# EAGLE library part DF40-60 (library kmod-connectors)
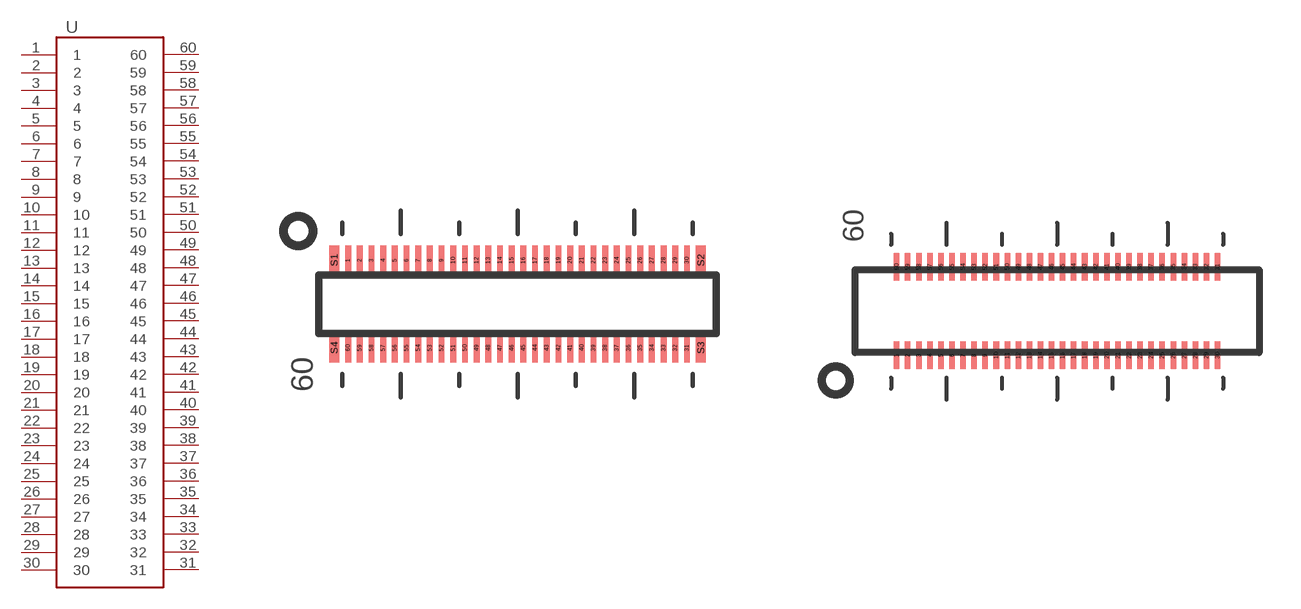
[diagram p12: symbol with the pads of DF40-HDR-60; footprints DF40-HDR-60, DF40-RCP-60]

Designator prefix -

## DF40-60HDR  [DF40-HDR-60]
1  1
2  2
3  3
4  4
5  5
6  6
7  7
8  8
9  9
10  10
11  11
12  12
13  13
14  14
15  15
16  16
17  17
18  18
19  19
20  20
21  21
22  22
23  23
24  24
25  25
26  26
27  27
28  28
29  29
30  30
31  31
32  32
33  33
34  34
35  35
36  36
37  37
38  38
39  39
40  40
41  41
42  42
43  43
44  44
45  45
46  46
47  47
48  48
49  49
50  50
51  51
52  52
53  53
54  54
55  55
56  56
57  57
58  58
59  59
60  60

## DF40-60RCP  [DF40-RCP-60]
Pads as for DF40-HDR-60

## Footprint DF40-HDR-60 (pad centres in mm)
Hirose DF40 60-pin header From http://www.hirose.co.jp/cataloge_hp/ed_DF40_20140305.pdf Changes: lengthened pads, thinned pads Untested!
smd 0.2 x 1: 1 -5.8,1.5; 2 -5.4,1.5; 3 -5,1.5; 4 -4.6,1.5; 5 -4.2,1.5; 6 -3.8,1.5; 7 -3.4,1.5; 8 -3,1.5; 9 -2.6,1.5; 10 -2.2,1.5; 11 -1.8,1.5; 12 -1.4,1.5; 13 -1,1.5; 14 -0.6,1.5; 15 -0.2,1.5; 16 0.2,1.5; 17 0.6,1.5; 18 1,1.5; 19 1.4,1.5; 20 1.8,1.5; 21 2.2,1.5; 22 2.6,1.5; 23 3,1.5; 24 3.4,1.5; 25 3.8,1.5; 26 4.2,1.5; 27 4.6,1.5; 28 5,1.5; 29 5.4,1.5; 30 5.8,1.5; 31 5.8,-1.5; 32 5.4,-1.5; 33 5,-1.5; 34 4.6,-1.5; 35 4.2,-1.5; 36 3.8,-1.5; 37 3.4,-1.5; 38 3,-1.5; 39 2.6,-1.5; 40 2.2,-1.5; 41 1.8,-1.5; 42 1.4,-1.5; 43 1,-1.5; 44 0.6,-1.5; 45 0.2,-1.5; 46 -0.2,-1.5; 47 -0.6,-1.5; 48 -1,-1.5; 49 -1.4,-1.5; 50 -1.8,-1.5; 51 -2.2,-1.5; 52 -2.6,-1.5; 53 -3,-1.5; 54 -3.4,-1.5; 55 -3.8,-1.5; 56 -4.2,-1.5; 57 -4.6,-1.5; 58 -5,-1.5; 59 -5.4,-1.5; 60 -5.8,-1.5
smd 0.35 x 1: S1 -6.275,1.5; S2 6.275,1.5; S3 6.275,-1.5; S4 -6.275,-1.5

## Footprint DF40-RCP-60 (pad centres in mm)
Hirose DF40 60-pin receptacle From http://www.hirose.co.jp/cataloge_hp/ed_DF40_20140305.pdf Untested!
smd 0.2 x 1: 1 -5.8,-1.6; 2 -5.4,-1.6; 3 -5,-1.6; 4 -4.6,-1.6; 5 -4.2,-1.6; 6 -3.8,-1.6; 7 -3.4,-1.6; 8 -3,-1.6; 9 -2.6,-1.6; 10 -2.2,-1.6; 11 -1.8,-1.6; 12 -1.4,-1.6; 13 -1,-1.6; 14 -0.6,-1.6; 15 -0.2,-1.6; 16 0.2,-1.6; 17 0.6,-1.6; 18 1,-1.6; 19 1.4,-1.6; 20 1.8,-1.6; 21 2.2,-1.6; 22 2.6,-1.6; 23 3,-1.6; 24 3.4,-1.6; 25 3.8,-1.6; 26 4.2,-1.6; 27 4.6,-1.6; 28 5,-1.6; 29 5.4,-1.6; 30 5.8,-1.6; 31 5.8,1.6; 32 5.4,1.6; 33 5,1.6; 34 4.6,1.6; 35 4.2,1.6; 36 3.8,1.6; 37 3.4,1.6; 38 3,1.6; 39 2.6,1.6; 40 2.2,1.6; 41 1.8,1.6; 42 1.4,1.6; 43 1,1.6; 44 0.6,1.6; 45 0.2,1.6; 46 -0.2,1.6; 47 -0.6,1.6; 48 -1,1.6; 49 -1.4,1.6; 50 -1.8,1.6; 51 -2.2,1.6; 52 -2.6,1.6; 53 -3,1.6; 54 -3.4,1.6; 55 -3.8,1.6; 56 -4.2,1.6; 57 -4.6,1.6; 58 -5,1.6; 59 -5.4,1.6; 60 -5.8,1.6